# Altium integrated library Silicon Labs Energy Micro EFM32.IntLib: 240 symbols (part 34 of 34)
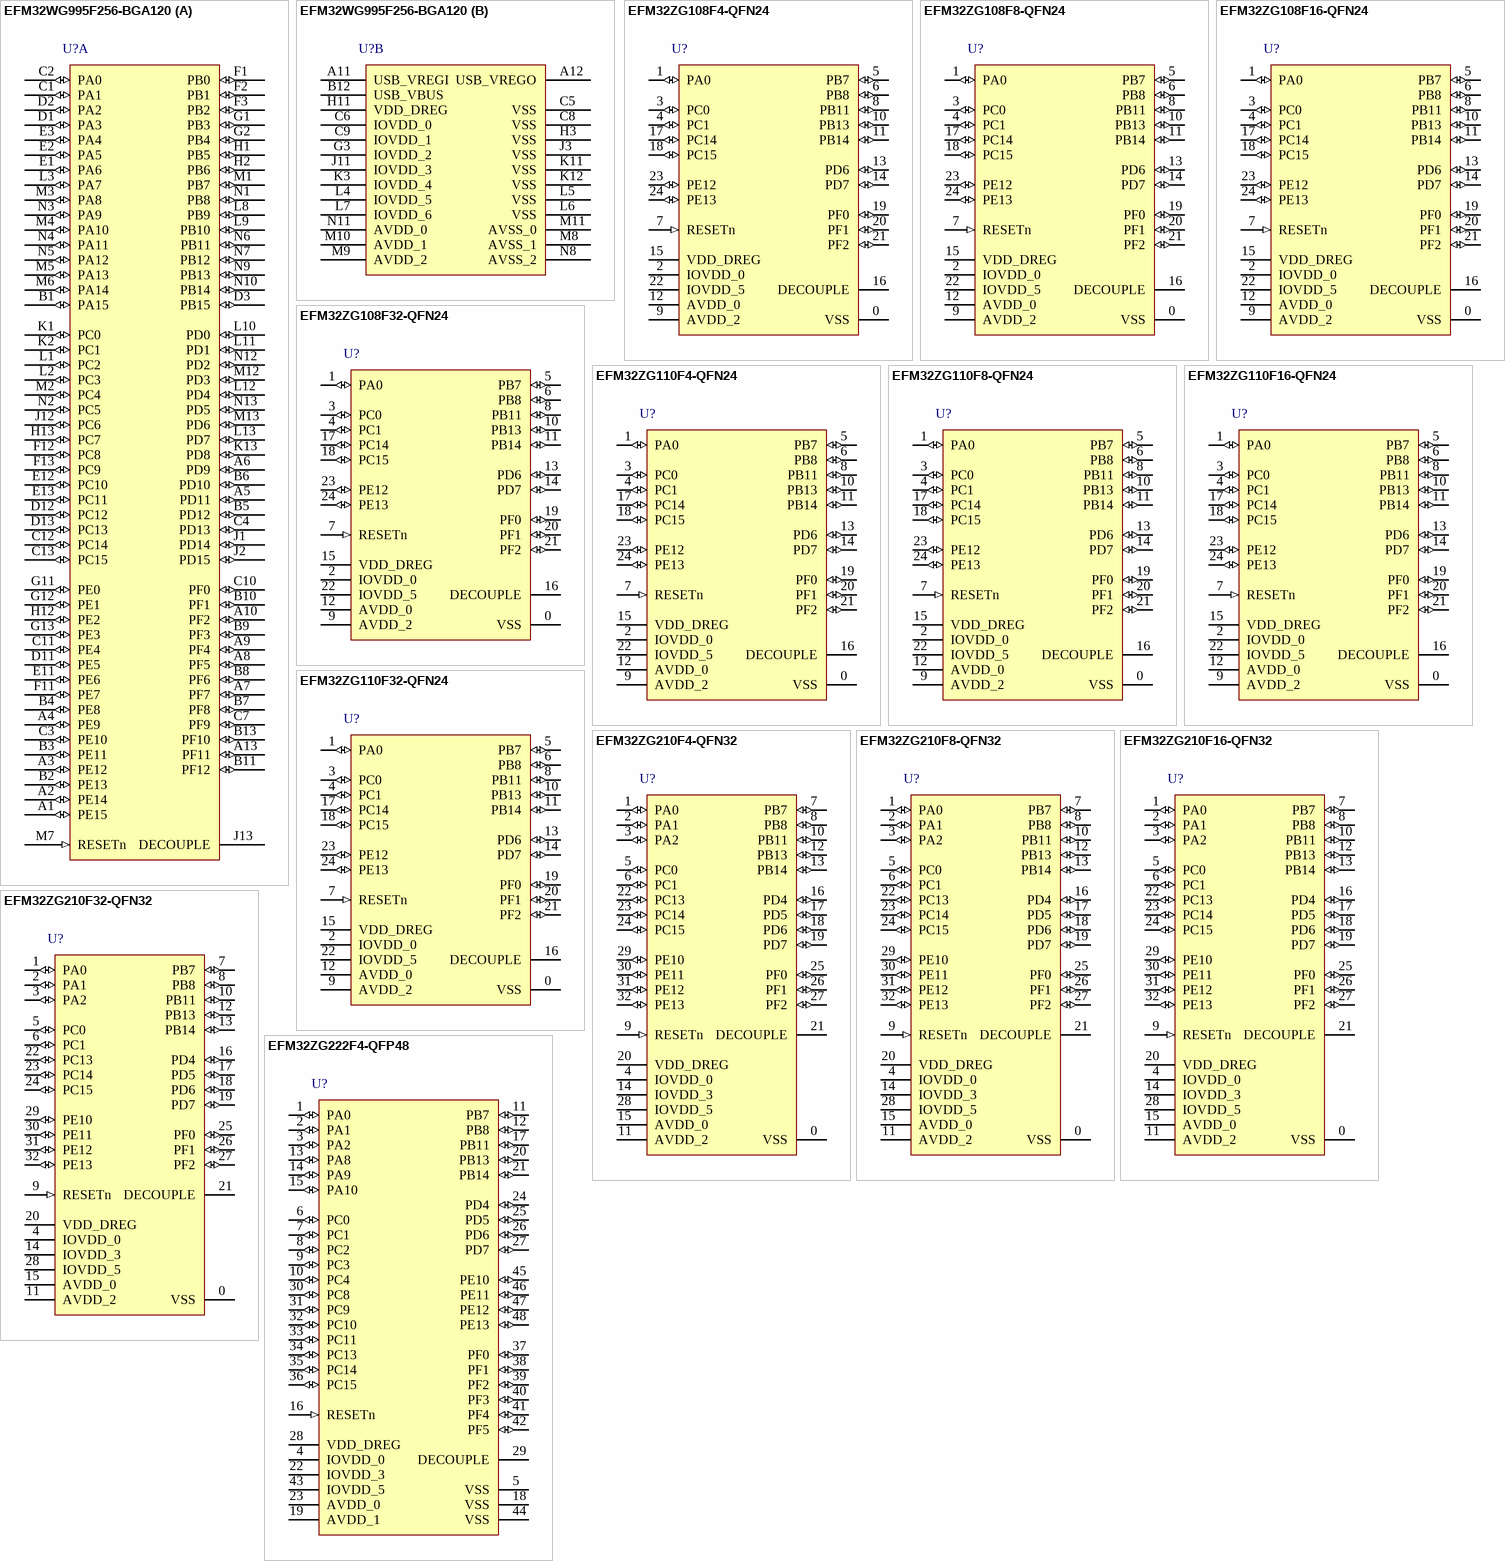
[diagram p71: symbols EFM32WG995F256-BGA120 to EFM32ZG222F4-QFP48]

## EFM32ZG222F4-QFP48
designator U?
EFM32 Zero Gecko, M0+ ARM Cortex CPU, 4 KB Flash, 2 KB RAM, 1.85 - 3.8 V Supply, 32 MHz Max Speed, -40 to 85 degC, 48-Pin TQFP, RoHS Compliant; Generic Part Number: EFM32ZG222; PartNumber: EFM32ZG222F4-QFP48; ADC: Y; Flash (KB): 4; GPIO: 37; I2C: 1; Max Speed (MHz): 32; RAM (KB): 2; USART/SPI (I2S): 1 (1); DatasheetVersion: Rev 0.40; PackageVersion: Rev. 98SPP48097A_XO_30Mar11; PackageReference: TQFP48; PackageDescription: 48-Pin Quad Flat Package, Body 7 x 7 mm, Pitch 0.5 mm; Supplier 1: Mouser; Supplier Part Number 1: 904-EFM32ZG222F4; ARM Cortex CPU: M0+; Subcategory: EFM32 Zero Gecko; Supply Voltage (V): 1.85 - 3.8; Mounting Technology: Surface Mount; ComponentLink1Description: Manufacturer URL; ComponentLink1URL: http://www.energymicro.com/; ComponentLink2Description: Datasheet; ComponentLink2URL: http://cdn.energymicro.com/dl/devices/pdf/d0066_efm32zg222_datasheet.pdf; ComponentLink3Description: Package Specification; ComponentLink3URL: http://cdn.energymicro.com/dl/devices/pdf/d0033_efm32g222_datasheet.pdf
footprint ENMR-TQFP48_N (QFP, 48-Leads, Body 7x7mm, Pitch 0.5mm, IPC Medium Density)
footprint ENMR-TQFP48_L (QFP, 48-Leads, Body 7x7mm, Pitch 0.5mm, IPC High Density)
footprint ENMR-TQFP48_M (QFP, 48-Leads, Body 7x7mm, Pitch 0.5mm, IPC Low Density)
pins: 1 PA0 (io) "TIM0_CC0 #0/1/4, TIM1_CC2 #5, US1_CLK #3, LEU0_RX #4, I2C0_SDA #0, CMU_CLK0 #3, PRS_CH0 #0, GPIO_EM4WU0", 2 PA1 (io) "TIM0_CC1 #0/1, I2C0_SCL #0, CMU_CLK1 #0, PRS_CH1 #0", 3 PA2 (io) "TIM0_CC2 #0/1, CMU_CLK0 #0", 4 IOVDD_0 (power) "Digital IO power supply 0.", 5 VSS (power) "Ground", 6 PC0 (io) "ACMP0_CH0 #0, TIM0_CC1 #4, PCNT0_S0IN #2, US1_TX #0, I2C0_SDA #4, PRS_CH2 #0", 7 PC1 (io) "ACMP0_CH1 #0, TIM0_CC2 #4, PCNT0_S1IN #2, US1_RX #0, I2C0_SCL #4, PRS_CH3 #0", 8 PC2 (io) "ACMP0_CH2 #0", 9 PC3 (io) "ACMP0_CH3 #0", 10 PC4 (io) "ACMP0_CH4 #0", 11 PB7 (io) "LFXTAL_P #0, TIM1_CC0 #3/5, US1_CLK #0", 12 PB8 (io) "LFXTAL_N #0, TIM1_CC1 #3/5, US1_CS #0", 13 PA8 (io), 14 PA9 (io), 15 PA10 (io), 16 RESETn (in) "Reset input. Active low, with internal pull-up.", 17 PB11 (io) "TIM1_CC2 #3", 18 VSS (power) "Ground", 19 AVDD_1 (power) "Analog power supply 1 .", 20 PB13 (io) "HFXTAL_P #0, PCNT0_S0IN #5, LEU0_TX #1, I2C0_SDA #7", 21 PB14 (io) "HFXTAL_N #0, PCNT0_S1IN #5, LEU0_RX #1, I2C0_SCL #7", 22 IOVDD_3 (power) "Digital IO power supply 3.", 23 AVDD_0 (power) "Analog power supply 0.", 24 PD4 (io) "ADC0_CH4 #0, LEU0_TX #0", 25 PD5 (io) "ADC0_CH5 #0, LEU0_RX #0", 26 PD6 (io) "ADC0_CH6 #0, TIM1_CC0 #4, PCNT0_S0IN #3, US1_RX #2, I2C0_SDA #1, ACMP0_O #2", 27 PD7 (io) "ADC0_CH7 #0, TIM1_CC1 #4, PCNT0_S1IN #3, US1_TX #2, I2C0_SCL #1, CMU_CLK0 #2", 28 VDD_DREG (power) "Power supply for on-chip voltage regulator.", 29 DECOUPLE "Decouple output for on-chip voltage regulator, nominally at 1.8 V. An external capacitance of size CDECOUPLE is required at this pin.", 30 PC8 (io), 31 PC9 (io) "GPIO_EM4WU2", 32 PC10 (io), 33 PC11 (io), 34 PC13 (io) "TIM1_CC0 #0, TIM1_CC2 #4, PCNT0_S0IN #0", 35 PC14 (io) "TIM0_CC0 #6, TIM1_CC1 #0, PCNT0_S1IN #0/4, US1_CS #3", 36 PC15 (io) "TIM1_CC2 #0, DBG_SWO #1", 37 PF0 (io) "TIM0_CC0 #5, PCNT0_S0IN #4, US1_CLK #2, LEU0_TX #3, I2C0_SDA #5, DBG_SWCLK #0/1/2/3", 38 PF1 (io) "TIM0_CC1 #5, US1_CS #2, LEU0_RX #3, I2C0_SCL #5, DBG_SWDIO #0/1/2/3, GPIO_EM4WU3", 39 PF2 (io) "TIM0_CC2 #5/6, US1_RX #3, LEU0_TX #4, ACMP0_O #1, DBG_SWO #0, GPIO_EM4WU4", 40 PF3 (io) "PRS_CH0 #1", 41 PF4 (io) "PRS_CH1 #1", 42 PF5 (io) "PRS_CH2 #1", 43 IOVDD_5 (power) "Digital IO power supply 5.", 44 VSS (power) "Ground", 45 PE10 (io) "TIM1_CC0 #1", 46 PE11 (io) "TIM1_CC1 #1", 47 PE12 (io) "TIM0_CC1 #6, TIM1_CC2 #1, US1_TX #3, I2C0_SDA #6, CMU_CLK1 #2/3", 48 PE13 (io) "I2C0_SCL #6, ACMP0_O #0, GPIO_EM4WU5"

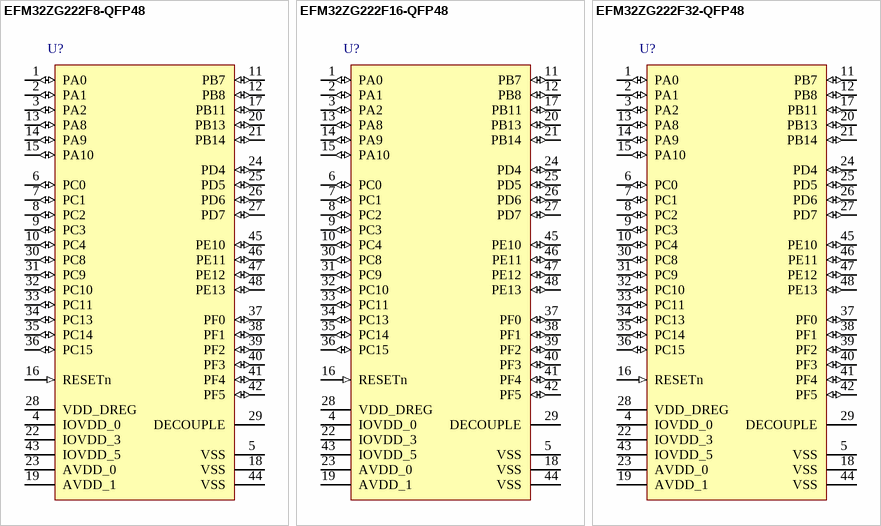
[diagram p38: symbols EFM32ZG222F8-QFP48 to EFM32ZG222F32-QFP48]

## EFM32ZG222F8-QFP48
designator U?
EFM32 Zero Gecko, M0+ ARM Cortex CPU, 8 KB Flash, 2 KB RAM, 1.85 - 3.8 V Supply, 32 MHz Max Speed, -40 to 85 degC, 48-Pin TQFP, RoHS Compliant; Generic Part Number: EFM32ZG222; PartNumber: EFM32ZG222F8-QFP48; ADC: Y; Flash (KB): 8; GPIO: 37; I2C: 1; Max Speed (MHz): 32; RAM (KB): 2; USART/SPI (I2S): 1 (1); DatasheetVersion: Rev 0.40; PackageVersion: Rev. 98SPP48097A_XO_30Mar11; PackageReference: TQFP48; PackageDescription: 48-Pin Quad Flat Package, Body 7 x 7 mm, Pitch 0.5 mm; Supplier 1: Mouser; Supplier Part Number 1: 904-EFM32ZG222F8; ARM Cortex CPU: M0+; Subcategory: EFM32 Zero Gecko; Supply Voltage (V): 1.85 - 3.8; Mounting Technology: Surface Mount; ComponentLink1Description: Manufacturer URL; ComponentLink1URL: http://www.energymicro.com/; ComponentLink2Description: Datasheet; ComponentLink2URL: http://cdn.energymicro.com/dl/devices/pdf/d0066_efm32zg222_datasheet.pdf; ComponentLink3Description: Package Specification; ComponentLink3URL: http://cdn.energymicro.com/dl/devices/pdf/d0033_efm32g222_datasheet.pdf
footprint ENMR-TQFP48_N (QFP, 48-Leads, Body 7x7mm, Pitch 0.5mm, IPC Medium Density)
footprint ENMR-TQFP48_L (QFP, 48-Leads, Body 7x7mm, Pitch 0.5mm, IPC High Density)
footprint ENMR-TQFP48_M (QFP, 48-Leads, Body 7x7mm, Pitch 0.5mm, IPC Low Density)
pins: 1 PA0 (io) "TIM0_CC0 #0/1/4, TIM1_CC2 #5, US1_CLK #3, LEU0_RX #4, I2C0_SDA #0, CMU_CLK0 #3, PRS_CH0 #0, GPIO_EM4WU0", 2 PA1 (io) "TIM0_CC1 #0/1, I2C0_SCL #0, CMU_CLK1 #0, PRS_CH1 #0", 3 PA2 (io) "TIM0_CC2 #0/1, CMU_CLK0 #0", 4 IOVDD_0 (power) "Digital IO power supply 0.", 5 VSS (power) "Ground", 6 PC0 (io) "ACMP0_CH0 #0, TIM0_CC1 #4, PCNT0_S0IN #2, US1_TX #0, I2C0_SDA #4, PRS_CH2 #0", 7 PC1 (io) "ACMP0_CH1 #0, TIM0_CC2 #4, PCNT0_S1IN #2, US1_RX #0, I2C0_SCL #4, PRS_CH3 #0", 8 PC2 (io) "ACMP0_CH2 #0", 9 PC3 (io) "ACMP0_CH3 #0", 10 PC4 (io) "ACMP0_CH4 #0", 11 PB7 (io) "LFXTAL_P #0, TIM1_CC0 #3/5, US1_CLK #0", 12 PB8 (io) "LFXTAL_N #0, TIM1_CC1 #3/5, US1_CS #0", 13 PA8 (io), 14 PA9 (io), 15 PA10 (io), 16 RESETn (in) "Reset input. Active low, with internal pull-up.", 17 PB11 (io) "TIM1_CC2 #3", 18 VSS (power) "Ground", 19 AVDD_1 (power) "Analog power supply 1 .", 20 PB13 (io) "HFXTAL_P #0, PCNT0_S0IN #5, LEU0_TX #1, I2C0_SDA #7", 21 PB14 (io) "HFXTAL_N #0, PCNT0_S1IN #5, LEU0_RX #1, I2C0_SCL #7", 22 IOVDD_3 (power) "Digital IO power supply 3.", 23 AVDD_0 (power) "Analog power supply 0.", 24 PD4 (io) "ADC0_CH4 #0, LEU0_TX #0", 25 PD5 (io) "ADC0_CH5 #0, LEU0_RX #0", 26 PD6 (io) "ADC0_CH6 #0, TIM1_CC0 #4, PCNT0_S0IN #3, US1_RX #2, I2C0_SDA #1, ACMP0_O #2", 27 PD7 (io) "ADC0_CH7 #0, TIM1_CC1 #4, PCNT0_S1IN #3, US1_TX #2, I2C0_SCL #1, CMU_CLK0 #2", 28 VDD_DREG (power) "Power supply for on-chip voltage regulator.", 29 DECOUPLE "Decouple output for on-chip voltage regulator, nominally at 1.8 V. An external capacitance of size CDECOUPLE is required at this pin.", 30 PC8 (io), 31 PC9 (io) "GPIO_EM4WU2", 32 PC10 (io), 33 PC11 (io), 34 PC13 (io) "TIM1_CC0 #0, TIM1_CC2 #4, PCNT0_S0IN #0", 35 PC14 (io) "TIM0_CC0 #6, TIM1_CC1 #0, PCNT0_S1IN #0/4, US1_CS #3", 36 PC15 (io) "TIM1_CC2 #0, DBG_SWO #1", 37 PF0 (io) "TIM0_CC0 #5, PCNT0_S0IN #4, US1_CLK #2, LEU0_TX #3, I2C0_SDA #5, DBG_SWCLK #0/1/2/3", 38 PF1 (io) "TIM0_CC1 #5, US1_CS #2, LEU0_RX #3, I2C0_SCL #5, DBG_SWDIO #0/1/2/3, GPIO_EM4WU3", 39 PF2 (io) "TIM0_CC2 #5/6, US1_RX #3, LEU0_TX #4, ACMP0_O #1, DBG_SWO #0, GPIO_EM4WU4", 40 PF3 (io) "PRS_CH0 #1", 41 PF4 (io) "PRS_CH1 #1", 42 PF5 (io) "PRS_CH2 #1", 43 IOVDD_5 (power) "Digital IO power supply 5.", 44 VSS (power) "Ground", 45 PE10 (io) "TIM1_CC0 #1", 46 PE11 (io) "TIM1_CC1 #1", 47 PE12 (io) "TIM0_CC1 #6, TIM1_CC2 #1, US1_TX #3, I2C0_SDA #6, CMU_CLK1 #2/3", 48 PE13 (io) "I2C0_SCL #6, ACMP0_O #0, GPIO_EM4WU5"

## EFM32ZG222F16-QFP48
designator U?
EFM32 Zero Gecko, M0+ ARM Cortex CPU, 16 KB Flash, 4 KB RAM, 1.85 - 3.8 V Supply, 32 MHz Max Speed, -40 to 85 degC, 48-Pin TQFP, RoHS Compliant; Generic Part Number: EFM32ZG222; PartNumber: EFM32ZG222F16-QFP48; ADC: Y; Flash (KB): 16; GPIO: 37; I2C: 1; Max Speed (MHz): 32; RAM (KB): 4; USART/SPI (I2S): 1 (1); DatasheetVersion: Rev 0.40; PackageVersion: Rev. 98SPP48097A_XO_30Mar11; PackageReference: TQFP48; PackageDescription: 48-Pin Quad Flat Package, Body 7 x 7 mm, Pitch 0.5 mm; Supplier 1: Mouser; Supplier Part Number 1: 904-EFM32ZG222F16; ARM Cortex CPU: M0+; Subcategory: EFM32 Zero Gecko; Supply Voltage (V): 1.85 - 3.8; Mounting Technology: Surface Mount; ComponentLink1Description: Manufacturer URL; ComponentLink1URL: http://www.energymicro.com/; ComponentLink2Description: Datasheet; ComponentLink2URL: http://cdn.energymicro.com/dl/devices/pdf/d0066_efm32zg222_datasheet.pdf; ComponentLink3Description: Package Specification; ComponentLink3URL: http://cdn.energymicro.com/dl/devices/pdf/d0033_efm32g222_datasheet.pdf
footprint ENMR-TQFP48_N (QFP, 48-Leads, Body 7x7mm, Pitch 0.5mm, IPC Medium Density)
footprint ENMR-TQFP48_L (QFP, 48-Leads, Body 7x7mm, Pitch 0.5mm, IPC High Density)
footprint ENMR-TQFP48_M (QFP, 48-Leads, Body 7x7mm, Pitch 0.5mm, IPC Low Density)
pins: 1 PA0 (io) "TIM0_CC0 #0/1/4, TIM1_CC2 #5, US1_CLK #3, LEU0_RX #4, I2C0_SDA #0, CMU_CLK0 #3, PRS_CH0 #0, GPIO_EM4WU0", 2 PA1 (io) "TIM0_CC1 #0/1, I2C0_SCL #0, CMU_CLK1 #0, PRS_CH1 #0", 3 PA2 (io) "TIM0_CC2 #0/1, CMU_CLK0 #0", 4 IOVDD_0 (power) "Digital IO power supply 0.", 5 VSS (power) "Ground", 6 PC0 (io) "ACMP0_CH0 #0, TIM0_CC1 #4, PCNT0_S0IN #2, US1_TX #0, I2C0_SDA #4, PRS_CH2 #0", 7 PC1 (io) "ACMP0_CH1 #0, TIM0_CC2 #4, PCNT0_S1IN #2, US1_RX #0, I2C0_SCL #4, PRS_CH3 #0", 8 PC2 (io) "ACMP0_CH2 #0", 9 PC3 (io) "ACMP0_CH3 #0", 10 PC4 (io) "ACMP0_CH4 #0", 11 PB7 (io) "LFXTAL_P #0, TIM1_CC0 #3/5, US1_CLK #0", 12 PB8 (io) "LFXTAL_N #0, TIM1_CC1 #3/5, US1_CS #0", 13 PA8 (io), 14 PA9 (io), 15 PA10 (io), 16 RESETn (in) "Reset input. Active low, with internal pull-up.", 17 PB11 (io) "TIM1_CC2 #3", 18 VSS (power) "Ground", 19 AVDD_1 (power) "Analog power supply 1 .", 20 PB13 (io) "HFXTAL_P #0, PCNT0_S0IN #5, LEU0_TX #1, I2C0_SDA #7", 21 PB14 (io) "HFXTAL_N #0, PCNT0_S1IN #5, LEU0_RX #1, I2C0_SCL #7", 22 IOVDD_3 (power) "Digital IO power supply 3.", 23 AVDD_0 (power) "Analog power supply 0.", 24 PD4 (io) "ADC0_CH4 #0, LEU0_TX #0", 25 PD5 (io) "ADC0_CH5 #0, LEU0_RX #0", 26 PD6 (io) "ADC0_CH6 #0, TIM1_CC0 #4, PCNT0_S0IN #3, US1_RX #2, I2C0_SDA #1, ACMP0_O #2", 27 PD7 (io) "ADC0_CH7 #0, TIM1_CC1 #4, PCNT0_S1IN #3, US1_TX #2, I2C0_SCL #1, CMU_CLK0 #2", 28 VDD_DREG (power) "Power supply for on-chip voltage regulator.", 29 DECOUPLE "Decouple output for on-chip voltage regulator, nominally at 1.8 V. An external capacitance of size CDECOUPLE is required at this pin.", 30 PC8 (io), 31 PC9 (io) "GPIO_EM4WU2", 32 PC10 (io), 33 PC11 (io), 34 PC13 (io) "TIM1_CC0 #0, TIM1_CC2 #4, PCNT0_S0IN #0", 35 PC14 (io) "TIM0_CC0 #6, TIM1_CC1 #0, PCNT0_S1IN #0/4, US1_CS #3", 36 PC15 (io) "TIM1_CC2 #0, DBG_SWO #1", 37 PF0 (io) "TIM0_CC0 #5, PCNT0_S0IN #4, US1_CLK #2, LEU0_TX #3, I2C0_SDA #5, DBG_SWCLK #0/1/2/3", 38 PF1 (io) "TIM0_CC1 #5, US1_CS #2, LEU0_RX #3, I2C0_SCL #5, DBG_SWDIO #0/1/2/3, GPIO_EM4WU3", 39 PF2 (io) "TIM0_CC2 #5/6, US1_RX #3, LEU0_TX #4, ACMP0_O #1, DBG_SWO #0, GPIO_EM4WU4", 40 PF3 (io) "PRS_CH0 #1", 41 PF4 (io) "PRS_CH1 #1", 42 PF5 (io) "PRS_CH2 #1", 43 IOVDD_5 (power) "Digital IO power supply 5.", 44 VSS (power) "Ground", 45 PE10 (io) "TIM1_CC0 #1", 46 PE11 (io) "TIM1_CC1 #1", 47 PE12 (io) "TIM0_CC1 #6, TIM1_CC2 #1, US1_TX #3, I2C0_SDA #6, CMU_CLK1 #2/3", 48 PE13 (io) "I2C0_SCL #6, ACMP0_O #0, GPIO_EM4WU5"

## EFM32ZG222F32-QFP48
designator U?
EFM32 Zero Gecko, M0+ ARM Cortex CPU, 32 KB Flash, 4 KB RAM, 1.85 - 3.8 V Supply, 32 MHz Max Speed, -40 to 85 degC, 48-Pin TQFP, RoHS Compliant; Generic Part Number: EFM32ZG222; PartNumber: EFM32ZG222F32-QFP48; ADC: Y; Flash (KB): 32; GPIO: 37; I2C: 1; RAM (KB): 4; USART/SPI (I2S): 1 (1); DatasheetVersion: Rev 0.40; PackageVersion: Rev. 98SPP48097A_XO_30Mar11; PackageReference: TQFP48; PackageDescription: 48-Pin Quad Flat Package, Body 7 x 7 mm, Pitch 0.5 mm; Supplier 1: Mouser; Supplier Part Number 1: 904-EFM32ZG222F32; ARM Cortex CPU: M0+; Max Speed (MHz): 32; Subcategory: EFM32 Zero Gecko; Supply Voltage (V): 1.85 - 3.8; Mounting Technology: Surface Mount; ComponentLink1Description: Manufacturer URL; ComponentLink1URL: http://www.energymicro.com/; ComponentLink2Description: Datasheet; ComponentLink2URL: http://cdn.energymicro.com/dl/devices/pdf/d0066_efm32zg222_datasheet.pdf; ComponentLink3Description: Package Specification; ComponentLink3URL: http://cdn.energymicro.com/dl/devices/pdf/d0033_efm32g222_datasheet.pdf
footprint ENMR-TQFP48_N (QFP, 48-Leads, Body 7x7mm, Pitch 0.5mm, IPC Medium Density)
footprint ENMR-TQFP48_L (QFP, 48-Leads, Body 7x7mm, Pitch 0.5mm, IPC High Density)
footprint ENMR-TQFP48_M (QFP, 48-Leads, Body 7x7mm, Pitch 0.5mm, IPC Low Density)
pins: 1 PA0 (io) "TIM0_CC0 #0/1/4, TIM1_CC2 #5, US1_CLK #3, LEU0_RX #4, I2C0_SDA #0, CMU_CLK0 #3, PRS_CH0 #0, GPIO_EM4WU0", 2 PA1 (io) "TIM0_CC1 #0/1, I2C0_SCL #0, CMU_CLK1 #0, PRS_CH1 #0", 3 PA2 (io) "TIM0_CC2 #0/1, CMU_CLK0 #0", 4 IOVDD_0 (power) "Digital IO power supply 0.", 5 VSS (power) "Ground", 6 PC0 (io) "ACMP0_CH0 #0, TIM0_CC1 #4, PCNT0_S0IN #2, US1_TX #0, I2C0_SDA #4, PRS_CH2 #0", 7 PC1 (io) "ACMP0_CH1 #0, TIM0_CC2 #4, PCNT0_S1IN #2, US1_RX #0, I2C0_SCL #4, PRS_CH3 #0", 8 PC2 (io) "ACMP0_CH2 #0", 9 PC3 (io) "ACMP0_CH3 #0", 10 PC4 (io) "ACMP0_CH4 #0", 11 PB7 (io) "LFXTAL_P #0, TIM1_CC0 #3/5, US1_CLK #0", 12 PB8 (io) "LFXTAL_N #0, TIM1_CC1 #3/5, US1_CS #0", 13 PA8 (io), 14 PA9 (io), 15 PA10 (io), 16 RESETn (in) "Reset input. Active low, with internal pull-up.", 17 PB11 (io) "TIM1_CC2 #3", 18 VSS (power) "Ground", 19 AVDD_1 (power) "Analog power supply 1 .", 20 PB13 (io) "HFXTAL_P #0, PCNT0_S0IN #5, LEU0_TX #1, I2C0_SDA #7", 21 PB14 (io) "HFXTAL_N #0, PCNT0_S1IN #5, LEU0_RX #1, I2C0_SCL #7", 22 IOVDD_3 (power) "Digital IO power supply 3.", 23 AVDD_0 (power) "Analog power supply 0.", 24 PD4 (io) "ADC0_CH4 #0, LEU0_TX #0", 25 PD5 (io) "ADC0_CH5 #0, LEU0_RX #0", 26 PD6 (io) "ADC0_CH6 #0, TIM1_CC0 #4, PCNT0_S0IN #3, US1_RX #2, I2C0_SDA #1, ACMP0_O #2", 27 PD7 (io) "ADC0_CH7 #0, TIM1_CC1 #4, PCNT0_S1IN #3, US1_TX #2, I2C0_SCL #1, CMU_CLK0 #2", 28 VDD_DREG (power) "Power supply for on-chip voltage regulator.", 29 DECOUPLE "Decouple output for on-chip voltage regulator, nominally at 1.8 V. An external capacitance of size CDECOUPLE is required at this pin.", 30 PC8 (io), 31 PC9 (io) "GPIO_EM4WU2", 32 PC10 (io), 33 PC11 (io), 34 PC13 (io) "TIM1_CC0 #0, TIM1_CC2 #4, PCNT0_S0IN #0", 35 PC14 (io) "TIM0_CC0 #6, TIM1_CC1 #0, PCNT0_S1IN #0/4, US1_CS #3", 36 PC15 (io) "TIM1_CC2 #0, DBG_SWO #1", 37 PF0 (io) "TIM0_CC0 #5, PCNT0_S0IN #4, US1_CLK #2, LEU0_TX #3, I2C0_SDA #5, DBG_SWCLK #0/1/2/3", 38 PF1 (io) "TIM0_CC1 #5, US1_CS #2, LEU0_RX #3, I2C0_SCL #5, DBG_SWDIO #0/1/2/3, GPIO_EM4WU3", 39 PF2 (io) "TIM0_CC2 #5/6, US1_RX #3, LEU0_TX #4, ACMP0_O #1, DBG_SWO #0, GPIO_EM4WU4", 40 PF3 (io) "PRS_CH0 #1", 41 PF4 (io) "PRS_CH1 #1", 42 PF5 (io) "PRS_CH2 #1", 43 IOVDD_5 (power) "Digital IO power supply 5.", 44 VSS (power) "Ground", 45 PE10 (io) "TIM1_CC0 #1", 46 PE11 (io) "TIM1_CC1 #1", 47 PE12 (io) "TIM0_CC1 #6, TIM1_CC2 #1, US1_TX #3, I2C0_SDA #6, CMU_CLK1 #2/3", 48 PE13 (io) "I2C0_SCL #6, ACMP0_O #0, GPIO_EM4WU5"